# Altium integrated library Connectors.IntLib: 33 symbols
Pins are listed as number, name and electrical type; pins without a type are passive.

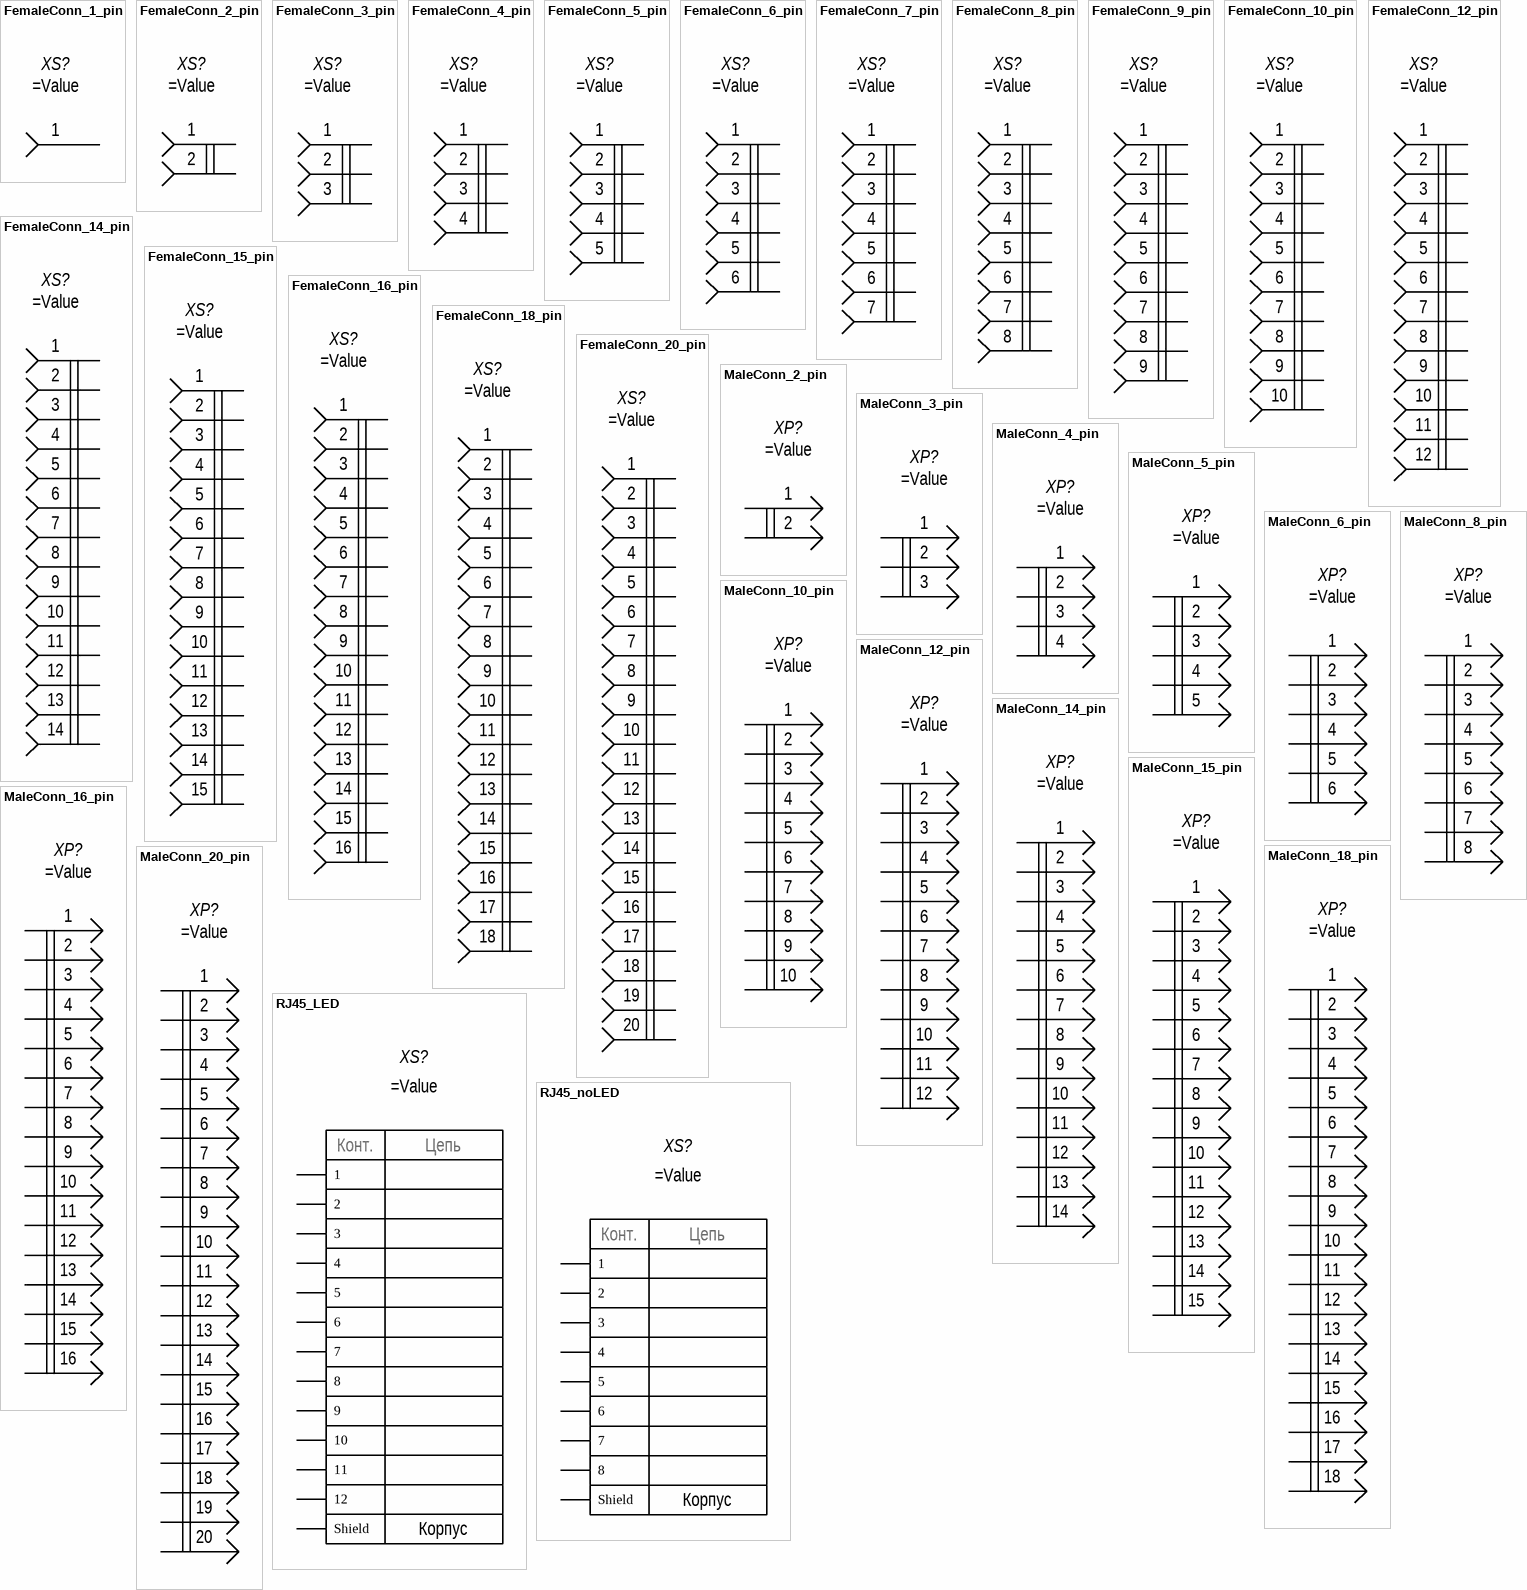
[diagram p0: symbols FemaleConn_1_pin to RJ45_noLED]

## FemaleConn_1_pin
designator XS?  (value not drawn)
HelpURL: *; Manufacturer: *; Value: =Value
footprint ZFKDS_1_1,5C-5,0 (ZFKDS 1,5C-5,0, Phoenix Contact, 1 pins, Pitch 5mm)
pins: 1

## FemaleConn_2_pin
designator XS?  (value not drawn)
HelpURL: *; Manufacturer: *; Value: =Value
footprint ZFKDS_2_1,5C-5,0 (ZFKDS 1,5C-5,0, Phoenix Contact, 2 pins, Pitch 5mm)
pins: 1, 2

## FemaleConn_3_pin
designator XS?  (value not drawn)
HelpURL: *; Manufacturer: *; Value: =Value
footprint ZFKDS_3_1,5C-5,0 (ZFKDS 1,5C-5,0, Phoenix Contact, 3 pins, Pitch 5mm)
pins: 1, 2, 3

## FemaleConn_4_pin
designator XS?  (value not drawn)
HelpURL: *; Manufacturer: *; Value: =Value
footprint ZFKDS_4_1,5C-5,0 (ZFKDS 1,5C-5,0, Phoenix Contact, 4 pins, Pitch 5mm)
pins: 1, 2, 3, 4

## FemaleConn_5_pin
designator XS?  (value not drawn)
HelpURL: *; Manufacturer: *; Value: =Value
footprint PBS-5 (PBS Package, 5 pins, Pitch 2.54mm)
footprint ZFKDS_5_1,5C-5,0 (ZFKDS 1,5C-5,0, Phoenix Contact, 5 pins, Pitch 5mm)
pins: 1, 2, 3, 4, 5

## FemaleConn_6_pin
designator XS?  (value not drawn)
HelpURL: *; Manufacturer: *; Value: =Value
footprint ZFKDS_6_1,5C-5,0 (ZFKDS 1,5C-5,0, Phoenix Contact, 6 pins, Pitch 5mm)
pins: 1, 2, 3, 4, 5, 6

## FemaleConn_7_pin
designator XS?  (value not drawn)
HelpURL: *; Manufacturer: *; Value: =Value
footprint ZFKDS_7_1,5C-5,0 (ZFKDS 1,5C-5,0, Phoenix Contact, 7 pins, Pitch 5mm)
pins: 1, 2, 3, 4, 5, 6, 7

## FemaleConn_8_pin
designator XS?  (value not drawn)
HelpURL: *; Manufacturer: *; Value: =Value
footprint ZFKDS_8_1,5C-5,0 (ZFKDS 1,5C-5,0, Phoenix Contact, 8 pins, Pitch 5mm)
pins: 1, 2, 3, 4, 5, 6, 7, 8

## FemaleConn_9_pin
designator XS?  (value not drawn)
HelpURL: *; Manufacturer: *; Value: =Value
footprint ZFKDS_9_1,5C-5,0 (ZFKDS 1,5C-5,0, Phoenix Contact, 9 pins, Pitch 5mm)
pins: 1, 2, 3, 4, 5, 6, 7, 8, 9

## FemaleConn_10_pin
designator XS?  (value not drawn)
HelpURL: *; Manufacturer: *; Value: =Value
footprint PBS-10 (PBS Package, 10 pins, Pitch 2.54mm)
footprint ZFKDS_10_1,5C-5,0 (ZFKDS 1,5C-5,0, Phoenix Contact, 10 pins, Pitch 5mm)
pins: 1, 2, 3, 4, 5, 6, 7, 8, 9, 10

## FemaleConn_12_pin
designator XS?  (value not drawn)
HelpURL: *; Manufacturer: *; Value: =Value
pins: 1, 2, 3, 4, 5, 6, 7, 8, 9, 10, 11, 12

## FemaleConn_14_pin
designator XS?  (value not drawn)
HelpURL: *; Manufacturer: *; Value: =Value
pins: 1, 2, 3, 4, 5, 6, 7, 8, 9, 10, 11, 12, 13, 14

## FemaleConn_15_pin
designator XS?  (value not drawn)
HelpURL: *; Manufacturer: *; Value: =Value
footprint PBS-15 (PBS Package, 15pins, Pitch 2.54mm (0.1inch))
pins: 1, 2, 3, 4, 5, 6, 7, 8, 9, 10, 11, 12, 13, 14, 15

## FemaleConn_16_pin
designator XS?  (value not drawn)
HelpURL: *; Manufacturer: *; Value: =Value
pins: 1, 2, 3, 4, 5, 6, 7, 8, 9, 10, 11, 12, 13, 14, 15, 16

## FemaleConn_18_pin
designator XS?  (value not drawn)
HelpURL: *; Manufacturer: *; Value: =Value
pins: 1, 2, 3, 4, 5, 6, 7, 8, 9, 10, 11, 12, 13, 14, 15, 16, 17, 18

## FemaleConn_20_pin
designator XS?  (value not drawn)
HelpURL: *; Manufacturer: *; Value: =Value
footprint PBS-20 (PBS Package, 20 pins, Pitch 2.54mm (0.1inch))
pins: 1, 2, 3, 4, 5, 6, 7, 8, 9, 10, 11, 12, 13, 14, 15, 16, 17, 18, 19, 20

## MaleConn_2_pin
designator XP?  (value not drawn)
HelpURL: *; Manufacturer: *; Value: =Value
footprint B2B-PH-K-S (B2B-PH Package, Manufacturer JST, 2 pins, 2 mm)
footprint WF-2R_(DS1070-2MR) (DS1070-2MR Package, Connfly, 2 pins, Pitch 2.54mm (0.1inch))
footprint WF-2_(DS1070-2) (DS1070-2 Package, Connfly, 2 pins, Pitch 2.54mm (0.1inch))
pins: 1, 2

## MaleConn_3_pin
designator XP?  (value not drawn)
HelpURL: *; Manufacturer: *; Value: =Value
footprint B3B-PH-K-S (B3B-PH Package, Manufacturer JST, 3 pins, 2 mm)
footprint PLS-3 (PLS Connector, 3 pin, Pitch 2.54mm (0.1inch))
footprint WF-3R_(DS1070-3MR) (DS1070-3MR Package, Connfly, 3 pins, Pitch 2.54mm (0.1inch))
footprint WF-3_(DS1070-3) (DS1070-3 Package, Connfly, 3 pins, Pitch 2.54mm (0.1inch))
pins: 1, 2, 3

## MaleConn_4_pin
designator XP?  (value not drawn)
HelpURL: *; Manufacturer: *; Value: =Value
footprint B4B-PH-K-S (B4B-PH Package, Manufacturer JST, 4 pins, 2 mm)
footprint PLS-4 (PLS Connector, 4 pin, Pitch 2.54mm (0.1inch))
footprint WF-4R_(DS1070-4MR) (DS1070-4MR Package, Connfly, 4 pins, Pitch 2.54mm (0.1inch))
footprint WF-4_(DS1070-4) (DS1070-4 Package, Connfly, 4 pins, Pitch 2.54mm (0.1inch))
pins: 1, 2, 3, 4

## MaleConn_5_pin
designator XP?  (value not drawn)
HelpURL: *; Manufacturer: *; Value: =Value
footprint PLS-5 (PLS Package, 5 pins, Pitch 2.54mm (0.1inch))
footprint WF-5R_(DS1070-5MR) (DS1070-5MR Package, Connfly, 5 pins, Pitch 2.54mm (0.1inch))
footprint WF-5_(DS1070-5) (DS1070-5 Package, Connfly, 5 pins, Pitch 2.54mm (0.1inch))
pins: 1, 2, 3, 4, 5

## MaleConn_6_pin
designator XP?  (value not drawn)
HelpURL: *; Manufacturer: *; Value: =Value
footprint WF-6R_(DS1070-6MR) (DS1070-6MR Package, Connfly, 6 pins, Pitch 2.54mm (0.1inch))
footprint WF-6_(DS1070-6) (DS1070-6 Package, Connfly, 6 pins, Pitch 2.54mm (0.1inch))
pins: 1, 2, 3, 4, 5, 6

## MaleConn_8_pin
designator XP?  (value not drawn)
HelpURL: *; Manufacturer: *; Value: =Value
pins: 1, 2, 3, 4, 5, 6, 7, 8

## MaleConn_10_pin
designator XP?  (value not drawn)
HelpURL: *; Manufacturer: *; Value: =Value
footprint PLS-10 (PLS Package, 10 pins, Pitch 2.54mm (0.1inch))
pins: 1, 2, 3, 4, 5, 6, 7, 8, 9, 10

## MaleConn_12_pin
designator XP?  (value not drawn)
HelpURL: *; Manufacturer: *; Value: =Value
pins: 1, 2, 3, 4, 5, 6, 7, 8, 9, 10, 11, 12

## MaleConn_14_pin
designator XP?  (value not drawn)
HelpURL: *; Manufacturer: *; Value: =Value
pins: 1, 2, 3, 4, 5, 6, 7, 8, 9, 10, 11, 12, 13, 14

## MaleConn_15_pin
designator XP?  (value not drawn)
HelpURL: *; Manufacturer: *; Value: =Value
footprint PLS-15 (PLS Package, 15pins, Pitch 2.54mm (0.1inch))
pins: 1, 2, 3, 4, 5, 6, 7, 8, 9, 10, 11, 12, 13, 14, 15

## MaleConn_16_pin
designator XP?  (value not drawn)
HelpURL: *; Manufacturer: *; Value: =Value
pins: 1, 2, 3, 4, 5, 6, 7, 8, 9, 10, 11, 12, 13, 14, 15, 16

## MaleConn_18_pin
designator XP?  (value not drawn)
HelpURL: *; Manufacturer: *; Value: =Value
pins: 1, 2, 3, 4, 5, 6, 7, 8, 9, 10, 11, 12, 13, 14, 15, 16, 17, 18

## MaleConn_20_pin
designator XP?  (value not drawn)
HelpURL: *; Manufacturer: *; Value: =Value
footprint PLS-20 (PLS Package, 20 pins, Pitch 2.54mm (0.1inch))
pins: 1, 2, 3, 4, 5, 6, 7, 8, 9, 10, 11, 12, 13, 14, 15, 16, 17, 18, 19, 20

## RJ45_LED
designator XS?  (value not drawn)
HelpURL: *; Manufacturer: *; Value: =Value
footprint RJ45_(RJHSE-5384) (8P8C/RJ45 Connector, Amphenol Type RJHSE-5384, 2 red and 2 green LED)
pins: 1, 2, 3, 4, 5, 6, 7, 8, 9, 10, 11, 12, Shield
text: Конт.; Цепь; Корпус

## RJ45_noLED
designator XS?  (value not drawn)
HelpURL: *; Manufacturer: *; Value: =Value
footprint RJ45_noLED_(1-406541-1) (8P8C/RJ45 Connector, TE Connectivity Type 1-406541-1, No LED)
pins: 1, 2, 3, 4, 5, 6, 7, 8, Shield
text: Конт.; Цепь; Корпус

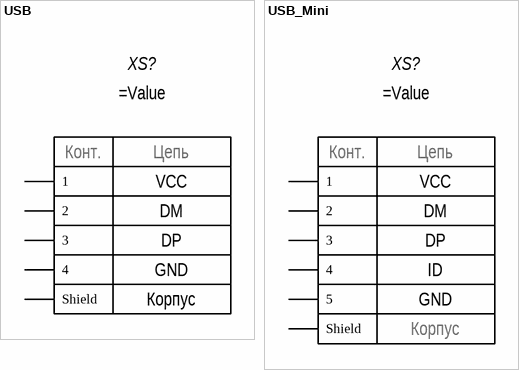
[diagram p1: symbols USB to USB_Mini]

## USB
designator XS?  (value not drawn)
HelpURL: *; Manufacturer: *; Value: =Value
footprint USB_(292336-1) (USB Connector, TE Connectivity Type 292336-1, Vertical, Single Type A)
footprint USB_(1734366-1) (USB Connector, TE Connectivity Type 1734366-1, Vertical, Single Type A)
footprint USB_(292304-2) (USB Connector, TE Connectivity Type 292304-2, Single Type B)
pins: 1, 2, 3, 4, Shield
text: Конт.; Цепь; VCC; DM; DP; GND; Корпус

## USB_Mini
designator XS?  (value not drawn)
HelpURL: *; Manufacturer: *; Value: =Value
footprint USB_(1734035-1) (USB Connector, TE Connectivity Type 1734035-1, Single Type B)
pins: 1, 2, 3, 4, 5, Shield
text: Конт.; Цепь; VCC; DM; DP; ID; GND; Корпус